# Altium footprint library WCAP-PTHR.PcbLib: 4 footprints
Each footprint in its own frame and in the unit in brackets; x right, y up, seen from the top. Pads: shape width x height; smd on the part's side, far side on the other; paste and mask are expansions set on the pad; w line width, h text height; cw(c..) or ccw(c..) is an arc to the next point about the centre after c.
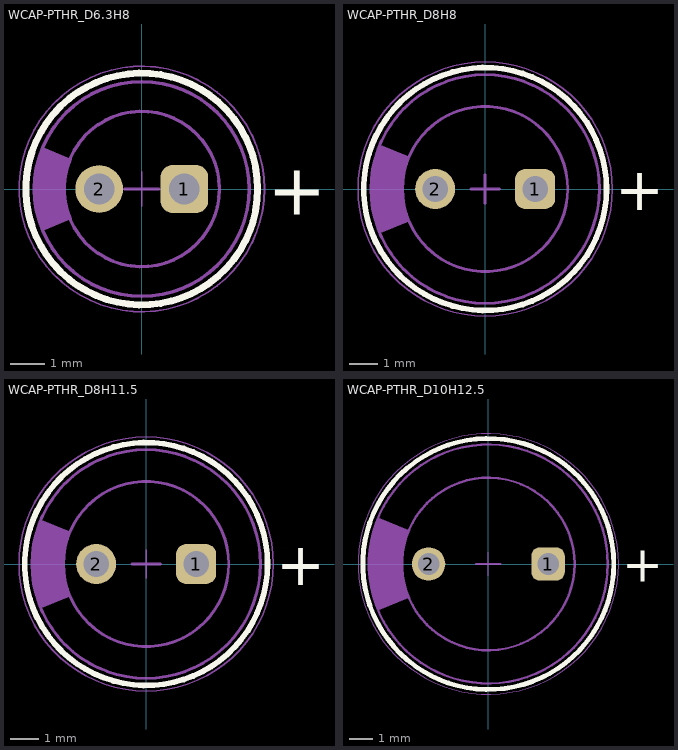
[diagram p0: the footprints below, top view; thin cyan lines are the x and y axes]

## WCAP-PTHR_D6.3H8 [mm] "Aluminium Polymer Radial THD Capacitors, 6.3x8mm"
height 8
pads (2):
  rrect50% 1.4x1.4 hole 0.9: 1(1.25,0)
  round 1.4 hole 0.9: 2(-1.25,0)
Top Overlay:
  circle w0.2: c0,0 r3.4
  text "+" at 3.7,-0.75 h1.5
Top Assembly:
  circle w0.1: c0,0 r3.15
  circle w0.1: c0,0 r2.28
  region: -2.902,-1.225 -2.963,-1.08 -3.056,-0.779 -3.119,-0.471 -3.15,-0.157 -3.15,0.157 -3.119,0.471 -3.056,0.779 -2.963,1.08 -2.902,1.225 -2.1,0.887 -2.101,0.885 -2.179,0.671 -2.269,0.227 -2.269,-0.227 -2.179,-0.671 -2.101,-0.885 -2.1,-0.887
Top Designator:
  text ".Designator" at -3.647,-0.357 h1
Top 3D Body:
  circle w0.1: c0,0 r3.15
  circle w0.1: c0,0 r2.28
  region: -2.902,-1.225 -2.963,-1.08 -3.056,-0.779 -3.119,-0.471 -3.15,-0.157 -3.15,0.157 -3.119,0.471 -3.056,0.779 -2.963,1.08 -2.902,1.225 -2.1,0.887 -2.101,0.885 -2.179,0.671 -2.269,0.227 -2.269,-0.227 -2.179,-0.671 -2.101,-0.885 -2.1,-0.887
Top Courtyard:
  circle w0.05: c0,0 r3.6
  lines w0.05: 0,-0.5 0,0.5
Top Component Center:
  lines w0.1: -0.5,0 0.5,0
3D body "6.3x8x2.5x0.6.stp": height 8.31, standoff -19.91, extent -3.14,-3.138 3.124,3.133

## WCAP-PTHR_D8H8 [mm] "Aluminium Polymer Radial THD Capacitors, 8x8mm"
height 8
pads (2):
  rrect50% 1.4x1.4 hole 0.9: 1(1.75,0)
  round 1.4 hole 0.9: 2(-1.75,0)
Top Overlay:
  circle w0.2: c0,0 r4.25
  text "+" at 4.55,-0.75 h1.5
Top Assembly:
  circle w0.1: c0,0 r2.89
  circle w0.1: c0,0 r4
  region: -3.685,-1.557 -3.762,-1.372 -3.881,-0.99 -3.96,-0.598 -4,-0.2 -4,0.2 -3.96,0.598 -3.881,0.99 -3.762,1.372 -3.685,1.557 -2.662,1.125 -2.662,1.124 -2.715,0.99 -2.8,0.714 -2.858,0.431 -2.886,0.144 -2.886,-0.144 -2.858,-0.431 -2.8,-0.714 -2.715,-0.99 -2.662,-1.124 -2.662,-1.125
Top Designator:
  text ".Designator" at -3.647,-0.357 h1
Top 3D Body:
  circle w0.1: c0,0 r2.89
  circle w0.1: c0,0 r4
  region: -3.685,-1.557 -3.762,-1.372 -3.881,-0.99 -3.96,-0.598 -4,-0.2 -4,0.2 -3.96,0.598 -3.881,0.99 -3.762,1.372 -3.685,1.557 -2.662,1.125 -2.662,1.124 -2.715,0.99 -2.8,0.714 -2.858,0.431 -2.886,0.144 -2.886,-0.144 -2.858,-0.431 -2.8,-0.714 -2.715,-0.99 -2.662,-1.124 -2.662,-1.125
Top Courtyard:
  circle w0.05: c0,0 r4.45
Top Component Center:
  lines w0.1: -0.5,0 0.5,0 ; 0,-0.5 0,0.5
3D body "8x8x3.5x0.6.stp": height 8.31, standoff -19.91, extent -3.99,-3.99 3.967,3.979

## WCAP-PTHR_D8H11.5 [mm] "Aluminium Polymer Radial THD Capacitors, 8x11.5mm"
height 11.5
pads (2):
  rrect50% 1.4x1.4 hole 0.9: 1(1.75,0)
  round 1.4 hole 0.9: 2(-1.75,0)
Top Overlay:
  circle w0.2: c0,0 r4.25
  text "+" at 4.55,-0.75 h1.5
Top Assembly:
  circle w0.1: c0,0 r4
  circle w0.1: c0,0 r2.89
  region: -3.685,-1.557 -3.762,-1.372 -3.881,-0.99 -3.96,-0.598 -4,-0.2 -4,0.2 -3.96,0.598 -3.881,0.99 -3.762,1.372 -3.685,1.557 -2.662,1.125 -2.662,1.124 -2.715,0.99 -2.8,0.714 -2.858,0.431 -2.886,0.144 -2.886,-0.144 -2.858,-0.431 -2.8,-0.714 -2.715,-0.99 -2.662,-1.124 -2.662,-1.125
Top Designator:
  text ".Designator" at -3.647,-0.357 h1
Top 3D Body:
  circle w0.1: c0,0 r4
  circle w0.1: c0,0 r2.89
  region: -3.685,-1.557 -3.762,-1.372 -3.881,-0.99 -3.96,-0.598 -4,-0.2 -4,0.2 -3.96,0.598 -3.881,0.99 -3.762,1.372 -3.685,1.557 -2.662,1.125 -2.662,1.124 -2.715,0.99 -2.8,0.714 -2.858,0.431 -2.886,0.144 -2.886,-0.144 -2.858,-0.431 -2.8,-0.714 -2.715,-0.99 -2.662,-1.124 -2.662,-1.125
Top Courtyard:
  circle w0.05: c0,0 r4.45
  lines w0.05: 0,-0.5 0,0.5
Top Component Center:
  lines w0.1: -0.5,0 0.5,0
3D body "8x11.5x3.5x0.6.stp": height 11.81, standoff -19.91, extent -3.99,-4 3.967,3.979

## WCAP-PTHR_D10H12.5 [mm] "Aluminium Polymer Radial THD Capacitors, 10x12.5mm"
height 12.5
pads (2):
  rrect50% 1.4x1.4 hole 0.9: 1(2.5,0)
  round 1.4 hole 0.9: 2(-2.5,0)
Top Overlay:
  circle w0.2: c0,0 r5.25
  text "+" at 5.6,-0.75 h1.5
Top Assembly:
  circle w0.1: c0,0 r3.61
  circle w0.1: c0,0 r5
  region: -4.607,-1.944 -3.323,-1.41 -3.324,-1.409 -3.39,-1.24 -3.497,-0.895 -3.569,-0.541 -3.605,-0.181 -3.605,0.181 -3.569,0.541 -3.497,0.895 -3.39,1.24 -3.324,1.409 -3.323,1.41 -4.607,1.944 -4.704,1.714 -4.851,1.237 -4.95,0.747 -5,0.25 -5,-0.25 -4.95,-0.747 -4.851,-1.237 -4.704,-1.714
Top Designator:
  text ".Designator" at -3.647,-0.357 h1
Top 3D Body:
  circle w0.1: c0,0 r3.61
  circle w0.1: c0,0 r5
  region: -4.607,-1.944 -3.323,-1.41 -3.324,-1.409 -3.39,-1.24 -3.497,-0.895 -3.569,-0.541 -3.605,-0.181 -3.605,0.181 -3.569,0.541 -3.497,0.895 -3.39,1.24 -3.324,1.409 -3.323,1.41 -4.607,1.944 -4.704,1.714 -4.851,1.237 -4.95,0.747 -5,0.25 -5,-0.25 -4.95,-0.747 -4.851,-1.237 -4.704,-1.714
Top Courtyard:
  circle w0.05: c0,0 r5.45
  lines w0.05: 0,-0.5 0,0.5
Top Component Center:
  lines w0.1: -0.5,0 0.5,0
3D body "10x12.5x5x0.6.stp": height 12.81, standoff -19.91, extent -4.99,-5 4.959,4.973